# Altium schematic symbol library ReadCard.SCHLIB: 8 symbols
Pins are listed as number, name and electrical type; pins without a type are passive.

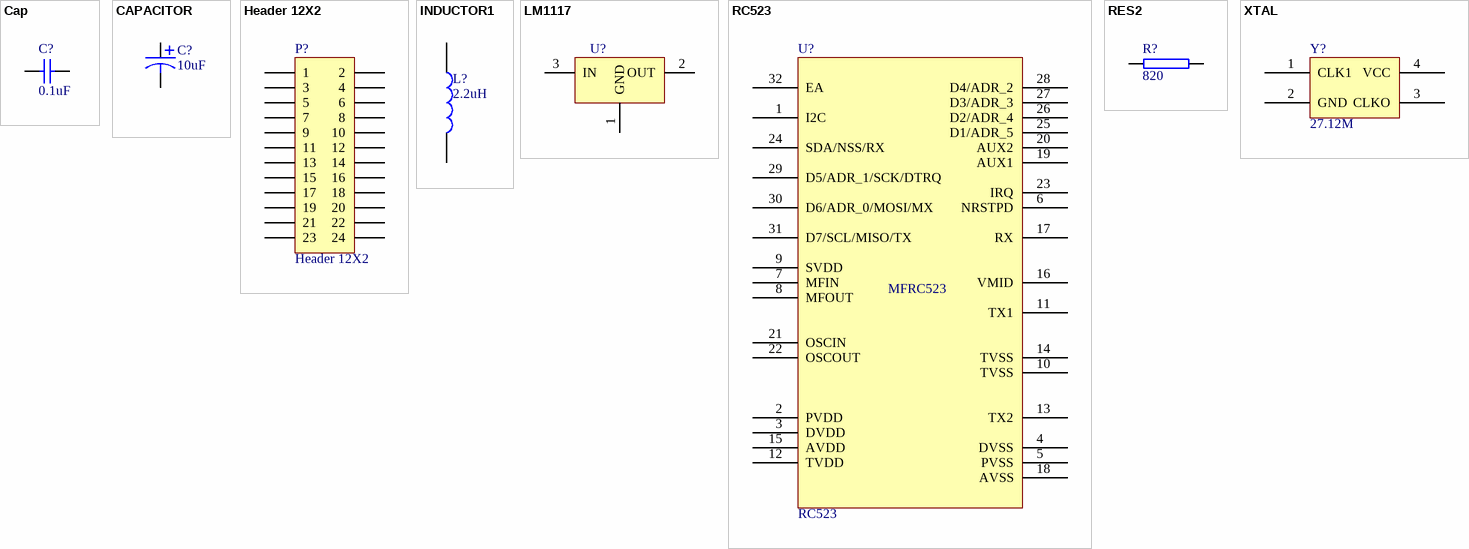
[diagram p0: symbols Cap to XTAL]

## Cap
designator C?, comment 0.1uF
贴片电容，0603
footprint 0603_C
pins: 1, 2

## CAPACITOR
designator C?, comment 10uF
贴片电容，1206
footprint RB.2/.4
footprint 1206_C
footprint CASE-B_3528
pins: 1, 2
2 alternate drawings of the same symbol

## Header 12X2
designator P?
Header, 12-Pin, Dual row, 2.0mm
footprint 12x2_2.0mm
pins: 1, 2, 3, 4, 5, 6, 7, 8, 9, 10, 11, 12, 13, 14, 15, 16, 17, 18, 19, 20, 21, 22, 23, 24

## INDUCTOR1
designator L?, comment 2.2uH
footprint 0805r
pins: 1, 2

## LM1117
designator U?  (value not drawn)
footprint SOT-223
pins: 1 GND, 2 OUT, 3 IN

## RC523
designator U?
footprint rc522
pins: 1 I2C, 2 PVDD, 3 DVDD, 4 DVSS, 5 PVSS, 6 NRSTPD, 7 MFIN, 8 MFOUT, 9 SVDD, 10 TVSS, 11 TX1, 12 TVDD, 13 TX2, 14 TVSS, 15 AVDD, 16 VMID, 17 RX, 18 AVSS, 19 AUX1, 20 AUX2, 21 OSCIN, 22 OSCOUT, 23 IRQ, 24 SDA/NSS/RX, 25 D1/ADR_5, 26 D2/ADR_4, 27 D3/ADR_3, 28 D4/ADR_2, 29 D5/ADR_1/SCK/DTRQ, 30 D6/ADR_0/MOSI/MX, 31 D7/SCL/MISO/TX, 32 EA
text: MFRC523

## RES2
designator R?, comment 820
footprint 0805R
footprint AXIAL0.3
footprint 0603R
footprint AXIAL0.4
pins: 1, 2
2 alternate drawings of the same symbol

## XTAL
designator Y?, comment 27.12M
footprint XTAL-XO53
footprint 27.12M_3225
pins: 1 CLK1, 2 GND, 3 CLKO, 4 VCC